# Altium footprint library HV9006_MEASUREBOARD.PCBLIB: 292 footprints (part 17 of 19)
Each footprint in its own frame and in the unit in brackets; x right, y up, seen from the top. Pads: shape width x height; smd on the part's side, far side on the other; paste and mask are expansions set on the pad; w line width, h text height; cw(c..) or ccw(c..) is an arc to the next point about the centre after c.
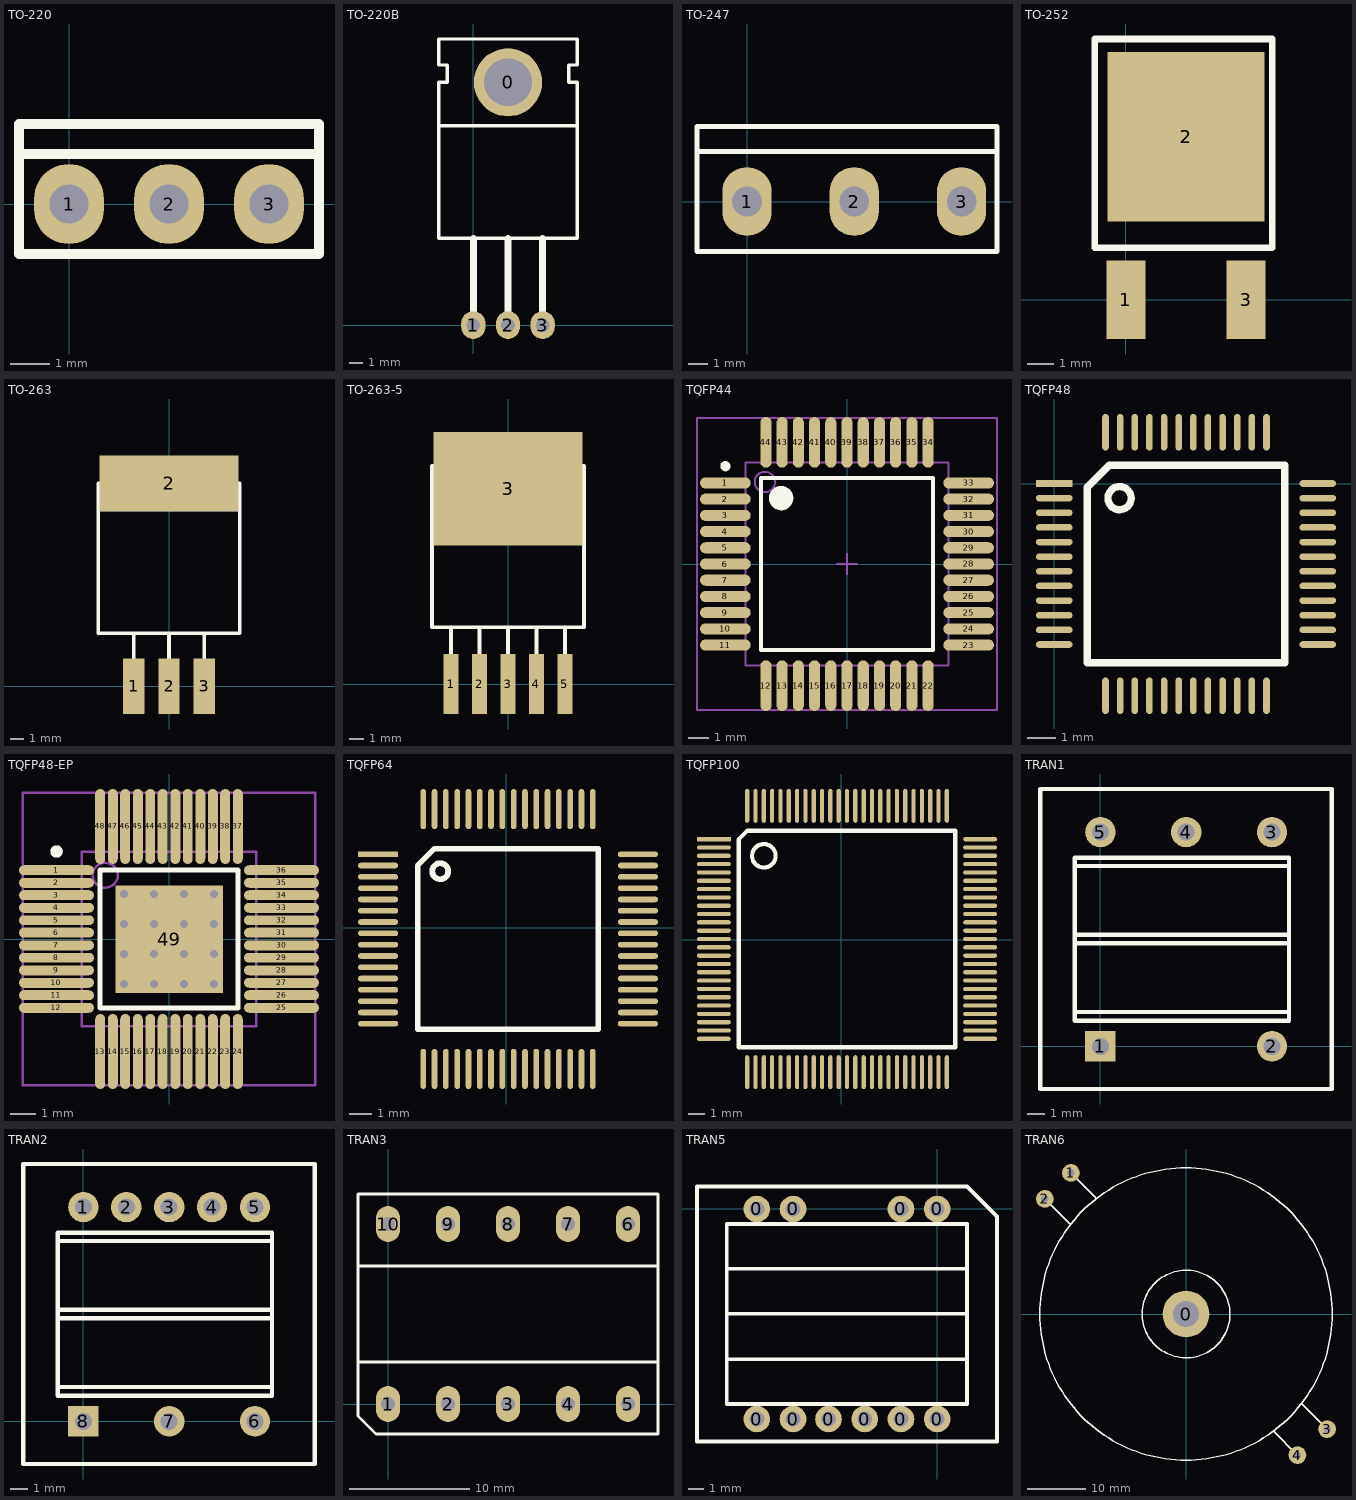
[diagram p16: the footprints below, top view; thin cyan lines are the x and y axes]

## TO-220 [mil]
pads (3):
  oval 70x80 hole 39: 1(0,0) 2(100,0) 3(200,0)
Top Overlay:
  lines w10: -50,50 -50,80 250,80 250,50 ; -50,50 250,50 ; -50,50 -50,-50 250,-50 250,50

## TO-220B [mil]
pads (4):
  round 196.85 hole 137.8: 0(100,700)
  oval 70x80 hole 39: 1(0,0) 2(100,0) 3(200,0)
Top Overlay:
  lines w10: -100,575 300,575 ; -100,250 -100,700 -75,700 -75,750 -100,750 -100,825 300,825 300,750 275,750 275,700 300,700 300,250 -100,250
  lines w20: 0,0 0,250 ; 100,0 100,250 ; 200,0 200,250

## TO-247 [mm]
pads (3):
  oval 2.5x3.5 hole 1.5: 1(0,0) 2(5.45,0) 3(10.9,0)
Top Overlay:
  lines w0.254: -2.54,2.54 -2.54,3.81 12.7,3.81 12.7,2.54 ; -2.54,2.54 12.7,2.54 ; -2.54,2.54 -2.54,-2.54 12.7,-2.54 12.7,2.54

## TO-252 [mm]
pads (3):
  rect 1.5x3 smd: 1(0,0) 3(4.6,0)
  rect 6x6.5 smd: 2(2.3,6.25)
Top Overlay:
  lines w0.254: -1.2,2 5.6,2 5.6,10 -1.2,10 -1.2,2

## TO-263 [mm]
pads (4):
  rect 1.524x4 smd: 1(-2.54,0) 2(0,0) 3(2.54,0)
  rect 10x4 smd: 2(0,14.605)
Top Overlay:
  lines w0.254: -5.08,12.7 5.08,12.7 ; -2.54,0 -2.54,3.81 ; 0,0 0,3.81 ; 2.54,0 2.54,3.81 ; -5.08,3.81 5.08,3.81 5.08,14.605 -5.08,14.605 -5.08,3.81

## TO-263-5 [mm]
pads (6):
  rect 1.016x4 smd: 1(-3.81,0) 2(-1.905,0) 3(0,0) 4(1.905,0) 5(3.81,0)
  rect 10x7.62 smd: 3(0,13.081)
Top Overlay:
  lines w0.254: -5.08,12.7 5.08,12.7 ; -3.81,0 -3.81,3.81 ; -1.905,0 -1.905,3.81 ; 0,0 0,3.81 ; 1.905,0 1.905,3.81 ; 3.81,0 3.81,3.81 ; -5.08,3.81 5.08,3.81 5.08,14.605 -5.08,14.605 -5.08,3.81

## TQFP44 [mm]
height 1.2
pads (44):
  oval 2.5x0.55 smd: 1(-6,4) 2(-6,3.2) 3(-6,2.4) 4(-6,1.6) 5(-6,0.8) 6(-6,0) 7(-6,-0.8) 8(-6,-1.6) 9(-6,-2.4) 10(-6,-3.2) 11(-6,-4) 23(6,-4) 24(6,-3.2) 25(6,-2.4) 26(6,-1.6) 27(6,-0.8) 28(6,0) 29(6,0.8) 30(6,1.6) 31(6,2.4) 32(6,3.2) 33(6,4)
  oval 0.55x2.5 smd: 12(-4,-6) 13(-3.2,-6) 14(-2.4,-6) 15(-1.6,-6) 16(-0.8,-6) 17(0,-6) 18(0.8,-6) 19(1.6,-6) 20(2.4,-6) 21(3.2,-6) 22(4,-6) 34(4,6) 35(3.2,6) 36(2.4,6) 37(1.6,6) 38(0.8,6) 39(0,6) 40(-0.8,6) 41(-1.6,6) 42(-2.4,6) 43(-3.2,6) 44(-4,6)
Top Overlay:
  circle w0.25: c-6,4.825 r0.125
  circle w0.6: c-3.25,3.25 r0.3
  lines w0.2: -4.25,-4.25 -4.25,4.25 4.25,4.25 4.25,-4.25 -4.25,-4.25
Mechanical 13:
  circle w0.1: c-4.05,4.05 r0.5
  lines w0.1: -5,-5 -5,5 5,5 5,-5 -5,-5
Mechanical 15:
  lines w0.1: -0.5,0 0.5,0 ; 0,-0.5 0,0.5 ; -7.4,-7.2 -7.4,7.2 7.4,7.2 7.4,-7.2 -7.4,-7.2
3D body: height 1.2, standoff 0.02, extent -5,-5 5,5

## TQFP48 [mil]
pads (48):
  rect 50x9 smd: 1(0,0)
  oval 50x9 smd: 2(0,-20) 3(0,-40) 4(0,-60) 5(0,-80) 6(0,-100) 7(0,-120) 8(0,-140) 9(0,-160) 10(0,-180) 11(0,-200) 12(0,-220) 25(360,-220) 26(360,-200) 27(360,-180) 28(360,-160) 29(360,-140) 30(360,-120) 31(360,-100) 32(360,-80) 33(360,-60) 34(360,-40) 35(360,-20) 36(360,0)
  oval 9x50 smd: 13(70,-290) 14(90,-290) 15(110,-290) 16(130,-290) 17(150,-290) 18(170,-290) 19(190,-290) 20(210,-290) 21(230,-290) 22(250,-290) 23(270,-290) 24(290,-290) 37(290,70) 38(270,70) 39(250,70) 40(230,70) 41(210,70) 42(190,70) 43(170,70) 44(150,70) 45(130,70) 46(110,70) 47(90,70) 48(70,70)
Top Overlay:
  circle w10: c89.19,-20 r15.81
  lines w10: 45,-245 315,-245 315,25 75,25 45,-5 45,-245

## TQFP48-EP [mm]
height 1.2
pads (49):
  oval 3x0.4 smd: 1(-4.5,2.75) 2(-4.5,2.25) 3(-4.5,1.75) 4(-4.5,1.25) 5(-4.5,0.75) 6(-4.5,0.25) 7(-4.5,-0.25) 8(-4.5,-0.75) 9(-4.5,-1.25) 10(-4.5,-1.75) 11(-4.5,-2.25) 12(-4.5,-2.75) 25(4.5,-2.75) 26(4.5,-2.25) 27(4.5,-1.75) 28(4.5,-1.25) 29(4.5,-0.75) 30(4.5,-0.25) 31(4.5,0.25) 32(4.5,0.75) 33(4.5,1.25) 34(4.5,1.75) 35(4.5,2.25) 36(4.5,2.75)
  oval 0.4x3 smd: 13(-2.75,-4.5) 14(-2.25,-4.5) 15(-1.75,-4.5) 16(-1.25,-4.5) 17(-0.75,-4.5) 18(-0.25,-4.5) 19(0.25,-4.5) 20(0.75,-4.5) 21(1.25,-4.5) 22(1.75,-4.5) 23(2.25,-4.5) 24(2.75,-4.5) 37(2.75,4.5) 38(2.25,4.5) 39(1.75,4.5) 40(1.25,4.5) 41(0.75,4.5) 42(0.25,4.5) 43(-0.25,4.5) 44(-0.75,4.5) 45(-1.25,4.5) 46(-1.75,4.5) 47(-2.25,4.5) 48(-2.75,4.5)
  rect 4.3x4.3 smd: 49(0,0)
via -1.8,1.8 diameter 0.66 hole 0.33
via -0.6,1.8 diameter 0.66 hole 0.33
via 0.6,1.8 diameter 0.66 hole 0.33
via 1.8,1.8 diameter 0.66 hole 0.33
via -1.8,0.6 diameter 0.66 hole 0.33
via -0.6,0.6 diameter 0.66 hole 0.33
via 0.6,0.6 diameter 0.66 hole 0.33
via 1.8,0.6 diameter 0.66 hole 0.33
via -1.8,-0.6 diameter 0.66 hole 0.33
via -0.6,-0.6 diameter 0.66 hole 0.33
via 0.6,-0.6 diameter 0.66 hole 0.33
via 1.8,-0.6 diameter 0.66 hole 0.33
via -1.8,-1.8 diameter 0.66 hole 0.33
via -0.6,-1.8 diameter 0.66 hole 0.33
via 0.6,-1.8 diameter 0.66 hole 0.33
via 1.8,-1.8 diameter 0.66 hole 0.33
Top Overlay:
  circle w0.25: c-4.5,3.5 r0.125
  lines w0.2: -2.75,-2.75 -2.75,2.75 2.75,2.75 2.75,-2.75 -2.75,-2.75
Mechanical 13:
  circle w0.1: c-2.55,2.55 r0.5
  lines w0.1: -3.5,-3.5 -3.5,3.5 3.5,3.5 3.5,-3.5 -3.5,-3.5
Mechanical 15:
  lines w0.1: -0.5,0 0.5,0 ; 0,-0.5 0,0.5 ; -5.85,-5.85 -5.85,5.85 5.85,5.85 5.85,-5.85 -5.85,-5.85
3D body: height 1.2, standoff 0.08, extent -3.5,-3.5 3.5,3.5

## TQFP64 [mil]
pads (64):
  rect 70x10 smd: 1(-223.53,128.16)
  oval 70x10 smd: 2(-223.53,108.47) 3(-223.53,88.79) 4(-223.53,69.1) 5(-223.53,49.42) 6(-223.53,29.73) 7(-223.53,10.05) 8(-223.53,-9.64) 9(-223.53,-29.32) 10(-223.53,-49.01) 11(-223.53,-68.69) 12(-223.53,-88.38) 13(-223.53,-108.06) 14(-223.53,-127.75) 15(-223.53,-147.43) 16(-223.53,-167.12) 33(229.23,-167.12) 34(229.23,-147.43) 35(229.23,-127.75) 36(229.23,-108.06) 37(229.23,-88.38) 38(229.23,-68.69) 39(229.23,-49.01) 40(229.23,-29.32) 41(229.23,-9.64) 42(229.23,10.05) 43(229.23,29.73) 44(229.23,49.42) 45(229.23,69.1) 46(229.23,88.79) 47(229.23,108.47) 48(229.23,128.16)
  oval 10x70 smd: 17(-144.79,-245.86) 18(-125.1,-245.86) 19(-105.42,-245.86) 20(-85.73,-245.86) 21(-66.05,-245.86) 22(-46.36,-245.86) 23(-26.68,-245.86) 24(-6.99,-245.86) 25(12.69,-245.86) 26(32.38,-245.86) 27(52.06,-245.86) 28(71.75,-245.86) 29(91.43,-245.86) 30(111.12,-245.86) 31(130.8,-245.86) 32(150.49,-245.86) 49(150.49,206.9) 50(130.8,206.9) 51(111.12,206.9) 52(91.43,206.9) 53(71.75,206.9) 54(52.06,206.9) 55(32.38,206.9) 56(12.69,206.9) 57(-6.99,206.9) 58(-26.68,206.9) 59(-46.36,206.9) 60(-66.05,206.9) 61(-85.73,206.9) 62(-105.42,206.9) 63(-125.1,206.9) 64(-144.79,206.9)
Top Overlay:
  circle w10: c-115.26,98.63 r13.92
  lines w10: -154.63,-176.96 -154.63,108.47 -125.1,138 160.33,138 160.33,-176.96 -154.63,-176.96

## TQFP100 [mil]
pads (100):
  rect 80x10 smd: 1(-301.37,237.63)
  oval 80x10 smd: 2(-301.37,217.94) 3(-301.37,198.26) 4(-301.37,178.57) 5(-301.37,158.89) 6(-301.37,139.21) 7(-301.37,119.52) 8(-301.37,99.83) 9(-301.37,80.15) 10(-301.37,60.47) 11(-301.37,40.78) 12(-301.37,21.09) 13(-301.37,1.41) 14(-301.37,-18.28) 15(-301.37,-37.96) 16(-301.37,-57.65) 17(-301.37,-77.33) 18(-301.37,-97.02) 19(-301.37,-116.7) 20(-301.37,-136.39) 21(-301.37,-156.07) 22(-301.37,-175.76) 23(-301.37,-195.44) 24(-301.37,-215.13) 25(-301.37,-234.81) 51(328.55,-234.81) 52(328.55,-215.13) 53(328.55,-195.44) 54(328.55,-175.76) 55(328.55,-156.07) 56(328.55,-136.39) 57(328.55,-116.7) 58(328.55,-97.02) 59(328.55,-77.33) 60(328.55,-57.65) 61(328.55,-37.96) 62(328.55,-18.28) 63(328.55,1.41) 64(328.55,21.09) 65(328.55,40.78) 66(328.55,60.47) 67(328.55,80.15) 68(328.55,99.83) 69(328.55,119.52) 70(328.55,139.21) 71(328.55,158.89) 72(328.55,178.57) 73(328.55,198.26) 74(328.55,217.94) 75(328.55,237.63)
  oval 10x80 smd: 26(-222.63,-313.55) 27(-202.94,-313.55) 28(-183.26,-313.55) 29(-163.57,-313.55) 30(-143.89,-313.55) 31(-124.2,-313.55) 32(-104.52,-313.55) 33(-84.83,-313.55) 34(-65.15,-313.55) 35(-45.47,-313.55) 36(-25.78,-313.55) 37(-6.09,-313.55) 38(13.59,-313.55) 39(33.28,-313.55) 40(52.96,-313.55) 41(72.65,-313.55) 42(92.33,-313.55) 43(112.02,-313.55) 44(131.7,-313.55) 45(151.39,-313.55) 46(171.07,-313.55) 47(190.76,-313.55) 48(210.44,-313.55) 49(230.13,-313.55) 50(249.81,-313.55) 76(249.81,316.37) 77(230.13,316.37) 78(210.44,316.37) 79(190.76,316.37) 80(171.07,316.37) 81(151.39,316.37) 82(131.7,316.37) 83(112.02,316.37) 84(92.33,316.37) 85(72.65,316.37) 86(52.96,316.37) 87(33.28,316.37) 88(13.59,316.37) 89(-6.09,316.37) 90(-25.78,316.37) 91(-45.47,316.37) 92(-65.15,316.37) 93(-84.83,316.37) 94(-104.52,316.37) 95(-124.2,316.37) 96(-143.89,316.37) 97(-163.57,316.37) 98(-183.26,316.37) 99(-202.94,316.37) 100(-222.63,316.37)
Top Overlay:
  circle w10: c-183.26,198.26 r27.84
  lines w10: -242.31,-254.5 -242.31,237.63 -222.63,257.31 269.5,257.31 269.5,-254.5 -242.31,-254.5

## TRAN1 [mil]
pads (6):
  round 0 all layers, no hole: 0(197,0)
  rect 70x70 hole 39: 1(0,0)
  round 70 hole 39: 2(394,0) 3(394,492) 4(197,492) 5(0,492)
Top Overlay:
  lines w10: -59,79 433,79 ; -59,237 433,237 ; -59,256 433,256 ; -59,414 433,414 ; -138,-98 -138,591 531,591 531,-98 -138,-98 ; -59,59 433,59 433,433 -59,433 -59,59

## TRAN2 [mil]
pads (8):
  round 70 hole 39: 1(0,492) 2(98.43,492) 3(197,492) 4(295.28,492) 5(394,492) 6(394,0) 7(196.85,0)
  rect 70x70 hole 39: 8(0,0)
Top Overlay:
  lines w10: -59,79 433,79 ; -59,237 433,237 ; -59,256 433,256 ; -59,414 433,414 ; -138,-98 531,-98 531,591 -138,591 -138,-98 ; -59,59 -59,433 433,433 433,59 -59,59

## TRAN3 [mm]
pads (10):
  oval 2x3 hole 1.2: 1(0,0) 2(5,0) 3(10,0) 4(15,0) 5(20,0) 6(20,15) 7(15,15) 8(10,15) 9(5,15) 10(0,15)
Top Overlay:
  lines w0.254: -2.5,3.5 22.5,3.5 ; -2.5,11.5 22.5,11.5 ; -2.5,-1 -2.5,17.5 22.5,17.5 22.5,-2.5 -1,-2.5 -2.5,-1

## TRAN5 [mil]
pads (14):
  round 70 hole 39: 0(-473,-551) 0(-473,0) 0(-378,-551) 0(-378,0) 0(-285,-551) 0(-190,-551) 0(-95,-551) 0(-95,0) 0(0,-551) 0(0,0)
  round 0 all layers, no hole: 0(-284,-551) 0(-284,0) 0(-189,-551) 0(-189,0)
Top Overlay:
  lines w10: -552,-394 78,-394 ; -552,-275 78,-275 ; -552,-157 78,-157 ; -630,-610 -630,59 78,59 157,-20 157,-610 -630,-610 ; -552,-512 78,-512 78,-39 -552,-39 -552,-512

## TRAN6 [mil]
pads (5):
  round 314.96 hole 177.17: 0(0,0)
  round 120 hole 50: 1(-775,950) 2(-950,775) 3(950,-775) 4(750,-950)
Top Overlay:
  circle w10: c0,0 r984.25
  circle w10: c0,0 r295.28
  lines w10: -950,775 -780,605 ; -775,950 -605,780 ; 590,-790 750,-950 ; 780,-605 950,-775